# EAGLE library part SOIL-MOISTURE-SENSOR (library acs712)
Soil Moisture Sensor Click here to find device on ebay.com <http://www.ebay.com/sch/soil+moisture+sensor+arduino>
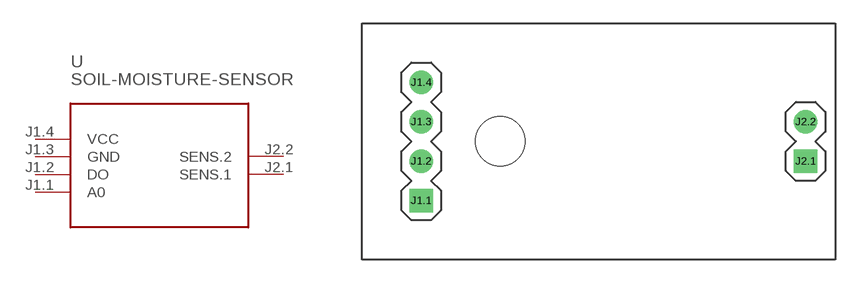
[diagram p19: symbol with the pads of SOIL-MOISTURE-SENSOR; footprint SOIL-MOISTURE-SENSOR]

Designator prefix -

## SOIL-MOISTURE-SENSOR  [SOIL-MOISTURE-SENSOR]
J1.1  A0
J1.2  DO  out
J1.3  GND  pwr
J1.4  VCC  pwr
J2.1  SENS.1
J2.2  SENS.2

## Footprint SOIL-MOISTURE-SENSOR (pad centres in mm)
Soil Moisture Sensor
drill 1 square: J1.1 -11.43,-3.81; J2.1 13.335,-1.27
drill 1: J1.2 -11.43,-1.27; J1.3 -11.43,1.27; J1.4 -11.43,3.81; J2.2 13.335,1.27
hole 3.2 at -6.35,0